# Altium schematic symbol library NewhavenDisplay.SchLib: 1 symbol
Pins are listed as number, name and electrical type; pins without a type are passive.

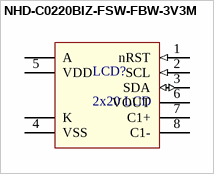
[diagram p0: symbol NHD-C0220BIZ-FSW-FBW-3V3M]

## NHD-C0220BIZ-FSW-FBW-3V3M
designator LCD?, comment 2x20 LCD
pins: 1 nRST (in), 2 SCL (in), 3 SDA (io), 4 VSS (power), 5 VDD (power), 6 VOUT, 7 C1+, 8 C1-, A, K